# EAGLE library part LTC3119 (library LTC3119)
18V, 5A Synchronous Buck-Boost DC/DC Converter Linear Technology Has MPPT Capabilities
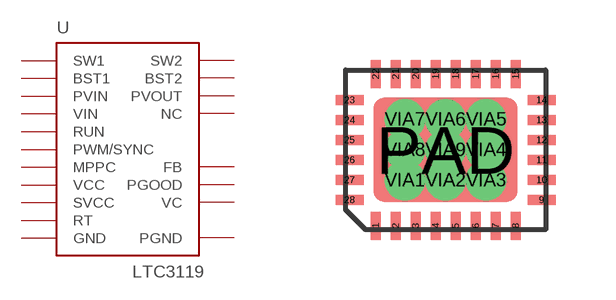
[diagram p0: symbol with the pads of UFD-QFN28; footprint UFD-QFN28]

Designator prefix -

## LTC3119  [UFD-QFN28]
1  PGND
2  SW2
3  PVOUT
4  PVOUT
5  SW2
6  PGND
7  PGOOD
8  SVCC
9  FB
10  VC
11  GND
12  MPPC
13  VCC
14  RT
15  RUN
16  VIN
17  PGND
18  SW1
19  PVIN
20  PVIN
21  SW1
22  PGND
23  BST1
24  NC  nc
25  PWM/SYNC
26  NC  nc
27  NC  nc
28  BST2
PAD  PGND
VIA1  PGND
VIA2  PGND
VIA3  PGND
VIA4  PGND
VIA5  PGND
VIA6  PGND
VIA7  PGND
VIA8  PGND
VIA9  PGND

## Footprint UFD-QFN28 (pad centres in mm)
smd 0.25 x 0.7: 1 -1.75,-1.9; 2 -1.25,-1.9; 3 -0.75,-1.9; 4 -0.25,-1.9; 5 0.25,-1.9; 6 0.75,-1.9; 7 1.25,-1.9; 8 1.75,-1.9; 15 1.75,1.9; 16 1.25,1.9; 17 0.75,1.9; 18 0.25,1.9; 19 -0.25,1.9; 20 -0.75,1.9; 21 -1.25,1.9; 22 -1.75,1.9
smd 0.7 x 0.25: 9 2.4,-1.25; 10 2.4,-0.75; 11 2.4,-0.25; 12 2.4,0.25; 13 2.4,0.75; 14 2.4,1.25; 23 -2.4,1.25; 24 -2.4,0.75; 25 -2.4,0.25; 26 -2.4,-0.25; 27 -2.4,-0.75; 28 -2.4,-1.25
smd 3.6 x 2.6: PAD 0,0
drill 0.5 pad 0.61: VIA1 -1.016,-0.762; VIA2 0,-0.762; VIA3 1.016,-0.762; VIA4 1.016,0; VIA5 1.016,0.762; VIA6 0,0.762; VIA7 -1.016,0.762; VIA8 -1.016,0; VIA9 0,0